# Altium integrated library Optoisolators.IntLib: 1 symbol
Pins are listed as number, name and electrical type; pins without a type are passive.

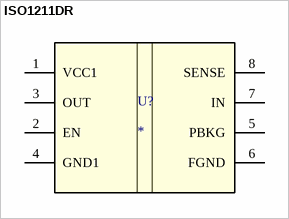
[diagram p0: symbol ISO1211DR]

## ISO1211DR
designator U?
No Description Available; PartNumber: ISO1211DR; Manufacturer: Texas Instruments; RefDes: RefDes; Type: DEV; Value: Value; Copyright: Copyright (C) 2018 Accelerated Designs. All rights reserved
footprint D0008B_HV
pins: 1 VCC1 (power), 2 EN, 3 OUT, 4 GND1 (power), 5 PBKG, 6 FGND (power), 7 IN, 8 SENSE